# Altium footprint library w806.PcbLib: 8 footprints
Each footprint in its own frame and in the unit in brackets; x right, y up, seen from the top. Pads: shape width x height; smd on the part's side, far side on the other; paste and mask are expansions set on the pad; w line width, h text height; cw(c..) or ccw(c..) is an arc to the next point about the centre after c.
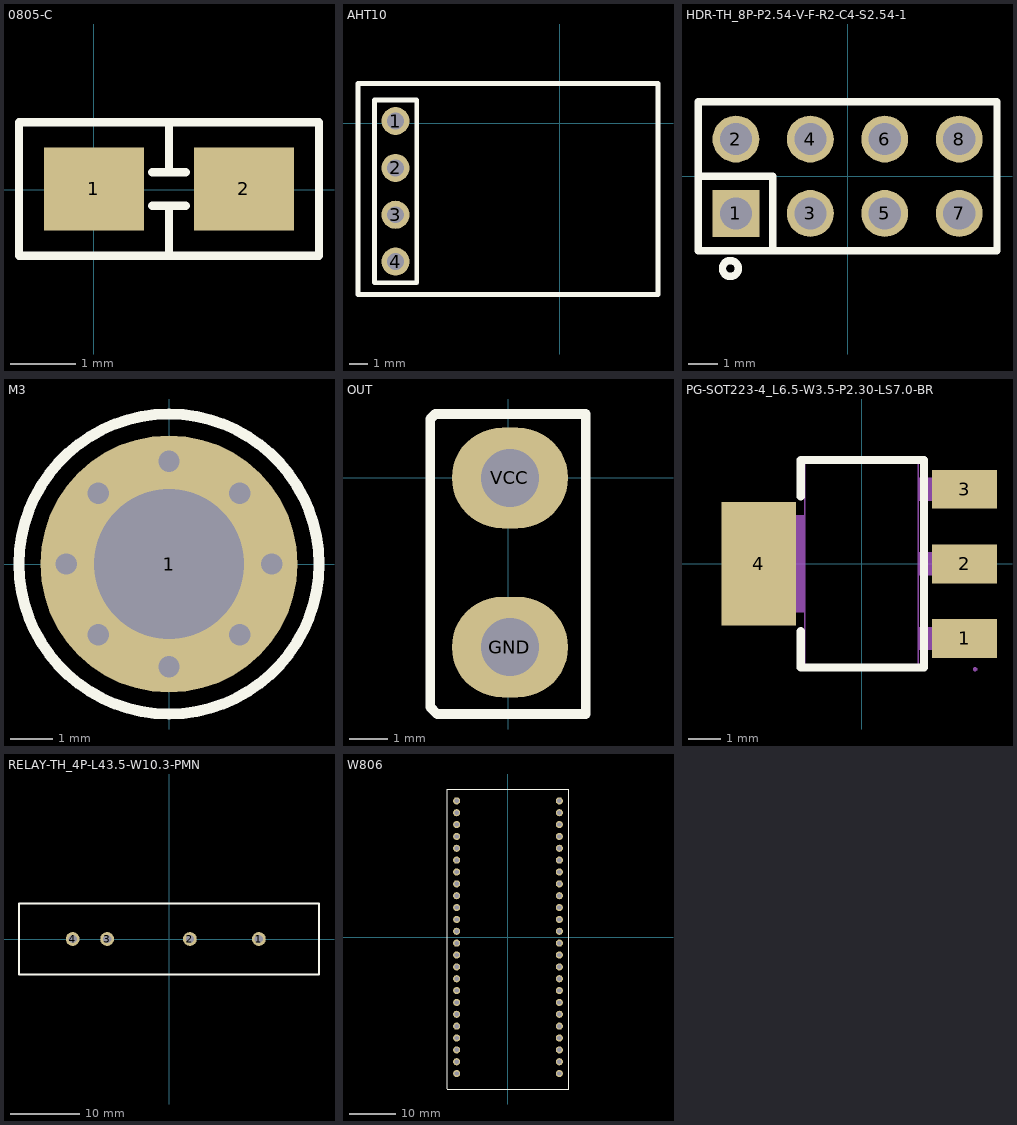
[diagram p0: the footprints below, top view; thin cyan lines are the x and y axes]

## 0805-C [mil]
pads (2):
  rect 60x50 smd mask+2: 1(0.08,0.45) 2(90.08,0.45)
Top Overlay:
  lines w5: 35.08,-9.55 55.08,-9.55 ; 35.08,10.45 55.08,10.45 ; 45.08,-39.55 45.08,-9.55 ; 45.08,10.45 45.08,40.45 ; -44.92,-39.55 -44.92,40.45 135.08,40.45 135.08,-39.55 -44.92,-39.55

## AHT10 [mil]
pads (4):
  round 60 hole 36 mask+4: 1(-350,5) 2(-350,-95) 3(-350,-195) 4(-350,-295)
Top Overlay:
  lines w10: -430,-365 -430,85 210,85 210,-365 -430,-365 ; -395,-340 -395,50 -305,50 -305,-340 -395,-340

## HDR-TH_8P-P2.54-V-F-R2-C4-S2.54-1 [mil]
pads (8):
  rect 63x63 hole 43.3 mask+2: 1(-150,-50)
  round 63 hole 43.3 mask+2: 2(-150,50) 3(-50,-50) 4(-50,50) 5(50,-50) 6(50,50) 7(150,-50) 8(150,50)
Top Overlay:
  circle w10: c-157.5,-124 r10.7
  lines w10: -200.8,0 -100.4,0 -100.4,-100.4 ; -200.8,-100.4 -200.8,15.7 -200.8,100.4 200.8,100.4 200.8,-100.4 -200.8,-100.4
Mechanical 15:
  region: -162.6,-42.1 -137.4,-42.1 -137.4,-57.9 -162.6,-57.9
  region: -162.6,57.9 -137.4,57.9 -137.4,42.1 -162.6,42.1
  region: -62.6,-42.1 -37.4,-42.1 -37.4,-57.9 -62.6,-57.9
  region: -62.6,57.9 -37.4,57.9 -37.4,42.1 -62.6,42.1
  region: 37.4,-42.1 62.6,-42.1 62.6,-57.9 37.4,-57.9
  region: 37.4,57.9 62.6,57.9 62.6,42.1 37.4,42.1
  region: 137.4,-42.1 162.6,-42.1 162.6,-57.9 137.4,-57.9
  region: 137.4,57.9 162.6,57.9 162.6,42.1 137.4,42.1
  region: -197.6,-100 -197.6,-99.01 -199.01,-97.6 -200.99,-97.6 -202.4,-99.01 -202.4,-100 -202.4,-100.99 -200.99,-102.4 -199.01,-102.4 -197.6,-100.99 -197.6,-100
  lines w2: -200,-100 -200,100 200,100 200,-100 -200,-100

## M3 [mm]
pads (1):
  round 6 hole 3.5 mask+0.102: 1(0,0)
via -1.651,1.651 diameter 0.6 hole 0.5
via 1.651,-1.651 diameter 0.6 hole 0.5
via 1.651,1.651 diameter 0.6 hole 0.5
via -1.651,-1.651 diameter 0.6 hole 0.5
via 0,2.4 diameter 0.6 hole 0.5
via 0,-2.4 diameter 0.6 hole 0.5
via -2.4,0 diameter 0.6 hole 0.5
via 2.4,0 diameter 0.6 hole 0.5
Top Overlay:
  circle w0.254: c0,0 r3.5

## OUT [mm]
pads (2):
  oval 3x2.6 hole 1.5 mask+0.051: GND(0.051,-4.369) VCC(0.051,0)
Top Overlay:
  lines w0.254: -2.007,-5.918 -1.829,-6.096 2.007,-6.096 2.007,1.651 -1.88,1.651 -2.007,1.524 -2.007,-5.918

## PG-SOT223-4_L6.5-W3.5-P2.30-LS7.0-BR [mm]
pads (4):
  rect 2x1.2 smd mask+0.051: 1(3.175,-2.3) 2(3.175,0) 3(3.175,2.3)
  rect 2.3x3.8 smd mask+0.051: 4(-3.175,0)
Top Overlay:
  lines w0.254: -1.875,-2.075 -1.875,-3.2 1.925,-3.2 1.925,3.2 -1.875,3.2 -1.875,2.075
Mechanical 6:
  circle w0.254: c3.048,-2.286 r0.127
Mechanical 15:
  region: -3.5,-1.5 -3.5,1.5 -3,1.5 -3,-1.5
  region: -3.01,-1.5 -3.01,1.5 -1.74,1.5 -1.74,-1.5
  region: 3,-0.35 3,0.35 3.5,0.35 3.5,-0.35
  region: 1.74,-0.35 1.74,0.35 3.01,0.35 3.01,-0.35
  region: 3,1.95 3,2.65 3.5,2.65 3.5,1.95
  region: 1.74,1.95 1.74,2.65 3.01,2.65 3.01,1.95
  region: 3,-2.65 3,-1.95 3.5,-1.95 3.5,-2.65
  region: 1.74,-2.65 1.74,-1.95 3.01,-1.95 3.01,-2.65
  region: 3.56,-3.25 3.56,-3.225 3.525,-3.19 3.475,-3.19 3.44,-3.225 3.44,-3.25 3.44,-3.275 3.475,-3.31 3.525,-3.31 3.56,-3.275 3.56,-3.25
  lines w0.051: -1.75,-3.25 1.75,-3.25 1.75,3.25 -1.75,3.25 -1.75,-3.25

## RELAY-TH_4P-L43.5-W10.3-PMN [mm]
pads (4):
  round 2 hole 1.2 mask+0.102: 1(13.03,0) 2(3.03,0) 3(-8.97,0) 4(-13.97,0)
Top Overlay:
  lines w0.254: -21.75,-5.15 21.75,-5.15 21.75,5.15 -21.75,5.15 -21.75,-5.15

## W806 [mil]
pads (48):
  round 60 hole 36 mask+4: 1(-433.08,1150) 2(-433.08,1050) 3(-433.08,950) 4(-433.08,850) 5(-433.08,750) 6(-433.08,650) 7(-433.08,550) 8(-433.08,450) 9(-433.08,350) 10(-433.08,250) 11(-433.08,150) 12(-433.08,50) 13(-433.08,-50) 14(-433.08,-150) 15(-433.08,-250) 16(-433.08,-350) 17(-433.08,-450) 18(-433.08,-550) 19(-433.08,-650) 20(-433.08,-750) 21(-433.08,-850) 22(-433.08,-950) 23(-433.08,-1050) 24(-433.08,-1150) 25(433.08,-1150) 26(433.08,-1050) 27(433.08,-950) 28(433.08,-850) 29(433.08,-750) 30(433.08,-650) 31(433.08,-550) 32(433.08,-450) 33(433.08,-350) 34(433.08,-250) 35(433.08,-150) 36(433.08,-50) 37(433.08,50) 38(433.08,150) 39(433.08,250) 40(433.08,350) 41(433.08,450) 42(433.08,550) 43(433.08,650) 44(433.08,750) 45(433.08,850) 46(433.08,950) 47(433.08,1050) 48(433.08,1150)
Top Overlay:
  lines w7.87: -511.8,-1280 511.83,-1280 ; -511.8,-1277.56 -511.8,1250 511.83,1250 511.83,-1277.56